# Altium schematic symbol library PSULib.SchLib: 1 symbol
Pins are listed as number, name and electrical type; pins without a type are passive.

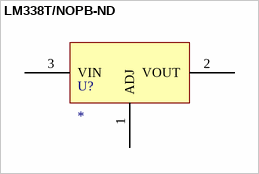
[diagram p0: symbol LM338T/NOPB-ND]

## LM338T/NOPB-ND
designator U?
pins: 1 ADJ, 2 VOUT, 3 VIN